# Altium integrated library Diodes - TVS.IntLib: 5379 symbols (part 41 of 122)
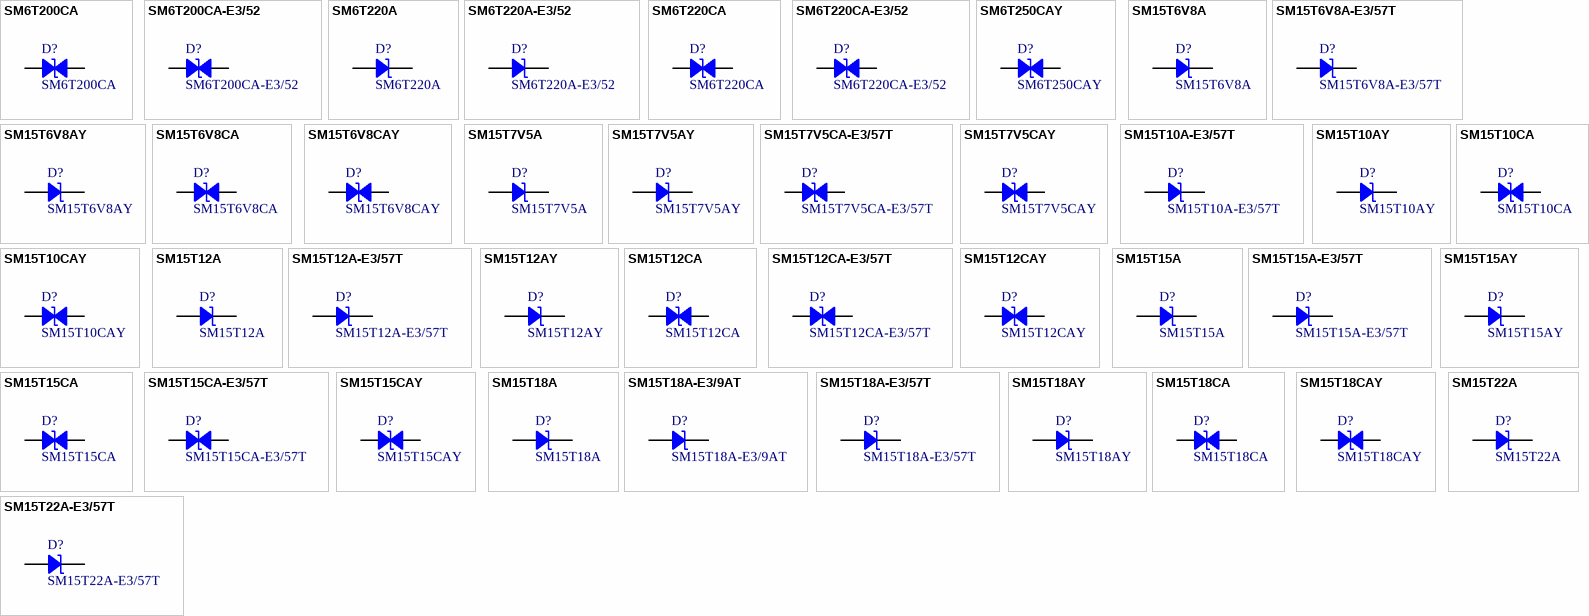
[diagram p174: symbols SM6T200CA to SM15T22A-E3/57T]

## SM15T6V8A-E3/57T
designator D?
TVS DIODE 5.8V 10.5V DO214AB; Manufacturer: Vishay Semiconductor Diodes Division; Current - Peak Pulse (10/1000µs): 143A; Power Line Protection: No; Power - Peak Pulse: 1500W (1.5kW); Type: Zener; Unidirectional Channels: 1; Voltage - Breakdown (Min): 6.45V; Part Number: SM15T6V8A-E3/57T; Applications: General Purpose; ComponentLink1Description: Datasheet; ComponentLink1URL: http://www.vishay.com/docs/88380/sm15t.pdf; ComponentLink2Description: DigiKey Link; ComponentLink2URL: http://digikey.com/product-detail/en/vishay-semiconductor-diodes-division/SM15T6V8A-E3-57T/SM15T6V8A-E3-57TGICT-ND/3306545; LastUpdated: 9/2/2020 1:20:02 AM; Lifecycle Status: Active; Minimum Order: 1; Mounting Type: Surface Mount; Operating Temperature: -65°C ~ 150°C (TJ); Package / Case: DO-214AB, SMC; Packaging: TapeAndReel; PartId: 6552; Part Status: Active; Price: 0.29; Series: SM15T, TransZorb®; Supplier 1: DigiKey; Supplier Part Number 1: SM15T6V8A-E3/57TGICT-ND; Supplier Device Package: DO-214AB (SMCJ); Voltage - Clamping (Max) @ Ipp: 10.5V; Voltage - Reverse Standoff (Typ): 5.8V
footprint DO214AB SMC
pins: 1, 2

## SM15T6V8AY
designator D?
TVS DIODE 5.8V 13.4V SMC; Manufacturer: STMicroelectronics; Current - Peak Pulse (10/1000µs): 746A (8/20µs); Power Line Protection: No; Power - Peak Pulse: 1500W (1.5kW); Type: Zener; Unidirectional Channels: 1; Voltage - Breakdown (Min): 6.45V; Part Number: SM15T6V8AY; Applications: Automotive; ComponentLink1Description: Datasheet; ComponentLink1URL: http://www.st.com/content/ccc/resource/technical/document/datasheet/83/5f/b6/7b/63/85/41/b5/CD00283429.pdf/files/CD00283429.pdf/jcr:content/translations/en.CD00283429.pdf; ComponentLink2Description: DigiKey Link; ComponentLink2URL: http://digikey.com/product-detail/en/stmicroelectronics/SM15T6V8AY/497-11780-1-ND/2756579; LastUpdated: 9/2/2020 1:20:03 AM; Lifecycle Status: Active; Minimum Order: 1; Mounting Type: Surface Mount; Operating Temperature: -40°C ~ 150°C (TJ); Package / Case: DO-214AB, SMC; Packaging: TapeAndReel; PartId: 6663; Part Status: Active; Price: 0.37; Series: Automotive, AEC-Q101, SM15TY, TRANSIL™; Supplier 1: DigiKey; Supplier Part Number 1: 497-11780-1-ND; Supplier Device Package: SMC; Voltage - Clamping (Max) @ Ipp: 13.4V; Voltage - Reverse Standoff (Typ): 5.8V
footprint DO214AB SMC
pins: 1, 2

## SM15T6V8CA
designator D?
TVS DIODE 5.8V 13.4V SMC; Manufacturer: STMicroelectronics; Bidirectional Channels: 1; Current - Peak Pulse (10/1000µs): 746A (8/20µs); Power Line Protection: No; Power - Peak Pulse: 1500W (1.5kW); Type: Zener; Voltage - Breakdown (Min): 6.45V; Part Number: SM15T6V8CA; Applications: General Purpose; ComponentLink1Description: Datasheet; ComponentLink1URL: http://www.st.com/content/ccc/resource/technical/document/datasheet/a5/63/bb/0d/f0/b8/44/65/CD00000724.pdf/files/CD00000724.pdf/jcr:content/translations/en.CD00000724.pdf; ComponentLink2Description: DigiKey Link; ComponentLink2URL: http://digikey.com/product-detail/en/stmicroelectronics/SM15T6V8CA/497-6488-1-ND/1865469; LastUpdated: 9/2/2020 1:28:09 AM; Lifecycle Status: Active; Minimum Order: 1; Mounting Type: Surface Mount; Operating Temperature: -55°C ~ 150°C (TJ); Package / Case: DO-214AB, SMC; Packaging: TapeAndReel; PartId: 8735; Part Status: Active; Price: 0.38; Series: SM15T, TRANSIL™; Supplier 1: DigiKey; Supplier Part Number 1: 497-6488-1-ND; Supplier Device Package: SMC; Voltage - Clamping (Max) @ Ipp: 13.4V; Voltage - Reverse Standoff (Typ): 5.8V
footprint DO214AB SMC
pins: 1, 2

## SM15T6V8CAY
designator D?
TVS DIODE 5.8V 13.4V SMC; Manufacturer: STMicroelectronics; Bidirectional Channels: 1; Current - Peak Pulse (10/1000µs): 746A (8/20µs); Power Line Protection: No; Power - Peak Pulse: 1500W (1.5kW); Type: Zener; Voltage - Breakdown (Min): 6.45V; Part Number: SM15T6V8CAY; Applications: Automotive; ComponentLink1Description: Datasheet; ComponentLink1URL: http://www.st.com/content/ccc/resource/technical/document/datasheet/83/5f/b6/7b/63/85/41/b5/CD00283429.pdf/files/CD00283429.pdf/jcr:content/translations/en.CD00283429.pdf; ComponentLink2Description: DigiKey Link; ComponentLink2URL: http://digikey.com/product-detail/en/stmicroelectronics/SM15T6V8CAY/497-11781-1-ND/2756568; LastUpdated: 9/2/2020 1:28:08 AM; Lifecycle Status: Active; Minimum Order: 1; Mounting Type: Surface Mount; Operating Temperature: -40°C ~ 150°C (TJ); Package / Case: DO-214AB, SMC; Packaging: TapeAndReel; PartId: 8624; Part Status: Active; Price: 0.38; Series: Automotive, AEC-Q101, SM15TY, TRANSIL™; Supplier 1: DigiKey; Supplier Part Number 1: 497-11781-1-ND; Supplier Device Package: SMC; Voltage - Clamping (Max) @ Ipp: 13.4V; Voltage - Reverse Standoff (Typ): 5.8V
footprint DO214AB SMC
pins: 1, 2

## SM15T7V5A
designator D?
TVS DIODE 6.4V 14.5V SMC; Manufacturer: STMicroelectronics; Current - Peak Pulse (10/1000µs): 690A (8/20µs); Power Line Protection: No; Power - Peak Pulse: 1500W (1.5kW); Type: Zener; Unidirectional Channels: 1; Voltage - Breakdown (Min): 7.13V; Part Number: SM15T7V5A; Applications: General Purpose; ComponentLink1Description: Datasheet; ComponentLink1URL: http://www.st.com/content/ccc/resource/technical/document/datasheet/a5/63/bb/0d/f0/b8/44/65/CD00000724.pdf/files/CD00000724.pdf/jcr:content/translations/en.CD00000724.pdf; ComponentLink2Description: DigiKey Link; ComponentLink2URL: http://digikey.com/product-detail/en/stmicroelectronics/SM15T7V5A/497-12774-1-ND/2873840; LastUpdated: 9/2/2020 1:20:06 AM; Lifecycle Status: Active; Minimum Order: 1; Mounting Type: Surface Mount; Operating Temperature: -55°C ~ 150°C (TJ); Package / Case: DO-214AB, SMC; Packaging: TapeAndReel; PartId: 7012; Part Status: Active; Price: 0.32; Series: SM15T, TRANSIL™; Supplier 1: DigiKey; Supplier Part Number 1: 497-12774-1-ND; Supplier Device Package: SMC; Voltage - Clamping (Max) @ Ipp: 14.5V; Voltage - Reverse Standoff (Typ): 6.4V
footprint DO214AB SMC
pins: 1, 2

## SM15T7V5AY
designator D?
TVS DIODE 6.4V 14.5V SMC; Manufacturer: STMicroelectronics; Current - Peak Pulse (10/1000µs): 690A (8/20µs); Power Line Protection: No; Power - Peak Pulse: 1500W (1.5kW); Type: Zener; Unidirectional Channels: 1; Voltage - Breakdown (Min): 7.13V; Part Number: SM15T7V5AY; Applications: Automotive; ComponentLink1Description: Datasheet; ComponentLink1URL: http://www.st.com/content/ccc/resource/technical/document/datasheet/83/5f/b6/7b/63/85/41/b5/CD00283429.pdf/files/CD00283429.pdf/jcr:content/translations/en.CD00283429.pdf; ComponentLink2Description: DigiKey Link; ComponentLink2URL: http://digikey.com/product-detail/en/stmicroelectronics/SM15T7V5AY/497-11784-1-ND/2756580; LastUpdated: 9/2/2020 1:20:03 AM; Lifecycle Status: Active; Minimum Order: 1; Mounting Type: Surface Mount; Operating Temperature: -40°C ~ 150°C (TJ); Package / Case: DO-214AB, SMC; Packaging: TapeAndReel; PartId: 6664; Part Status: Active; Price: 0.37; Series: Automotive, AEC-Q101, SM15TY, TRANSIL™; Supplier 1: DigiKey; Supplier Part Number 1: 497-11784-1-ND; Supplier Device Package: SMC; Voltage - Clamping (Max) @ Ipp: 14.5V; Voltage - Reverse Standoff (Typ): 6.4V
footprint DO214AB SMC
pins: 1, 2

## SM15T7V5CA-E3/57T
designator D?
TVS DIODE 6.4V 11.3V DO214AB; Manufacturer: Vishay Semiconductor Diodes Division; Bidirectional Channels: 1; Current - Peak Pulse (10/1000µs): 132A; Power Line Protection: No; Power - Peak Pulse: 1500W (1.5kW); Type: Zener; Voltage - Breakdown (Min): 7.13V; Part Number: SM15T7V5CA-E3/57T; Applications: General Purpose; ComponentLink1Description: Datasheet; ComponentLink1URL: http://www.vishay.com/docs/88380/sm15t.pdf; ComponentLink2Description: DigiKey Link; ComponentLink2URL: http://digikey.com/product-detail/en/vishay-semiconductor-diodes-division/SM15T7V5CA-E3-57T/SM15T7V5CA-E3-57TGICT-ND/5639120; LastUpdated: 9/2/2020 1:28:08 AM; Lifecycle Status: Active; Minimum Order: 1; Mounting Type: Surface Mount; Operating Temperature: -65°C ~ 150°C (TJ); Package / Case: DO-214AB, SMC; Packaging: TapeAndReel; PartId: 8655; Part Status: Active; Price: 0.34; Series: SM15T, TransZorb®; Supplier 1: DigiKey; Supplier Part Number 1: SM15T7V5CA-E3/57TGICT-ND; Supplier Device Package: DO-214AB (SMCJ); Voltage - Clamping (Max) @ Ipp: 11.3V; Voltage - Reverse Standoff (Typ): 6.4V
footprint DO214AB SMC
pins: 1, 2

## SM15T7V5CAY
designator D?
TVS DIODE 6.4V 14.5V SMC; Manufacturer: STMicroelectronics; Bidirectional Channels: 1; Current - Peak Pulse (10/1000µs): 690A (8/20µs); Power Line Protection: No; Power - Peak Pulse: 1500W (1.5kW); Type: Zener; Voltage - Breakdown (Min): 7.13V; Part Number: SM15T7V5CAY; Applications: Automotive; ComponentLink1Description: Datasheet; ComponentLink1URL: http://www.st.com/content/ccc/resource/technical/document/datasheet/83/5f/b6/7b/63/85/41/b5/CD00283429.pdf/files/CD00283429.pdf/jcr:content/translations/en.CD00283429.pdf; ComponentLink2Description: DigiKey Link; ComponentLink2URL: http://digikey.com/product-detail/en/stmicroelectronics/SM15T7V5CAY/497-11785-1-ND/2756583; LastUpdated: 9/2/2020 1:28:06 AM; Lifecycle Status: Active; Minimum Order: 1; Mounting Type: Surface Mount; Operating Temperature: -40°C ~ 150°C (TJ); Package / Case: DO-214AB, SMC; Packaging: TapeAndReel; PartId: 8440; Part Status: Active; Price: 0.38; Series: Automotive, AEC-Q101, SM15TY, TRANSIL™; Supplier 1: DigiKey; Supplier Part Number 1: 497-11785-1-ND; Supplier Device Package: SMC; Voltage - Clamping (Max) @ Ipp: 14.5V; Voltage - Reverse Standoff (Typ): 6.4V
footprint DO214AB SMC
pins: 1, 2

## SM15T10A-E3/57T
designator D?
TVS DIODE 8.55V 14.5V DO214AB; Manufacturer: Vishay Semiconductor Diodes Division; Current - Peak Pulse (10/1000µs): 103A; Power Line Protection: No; Power - Peak Pulse: 1500W (1.5kW); Type: Zener; Unidirectional Channels: 1; Voltage - Breakdown (Min): 9.5V; Part Number: SM15T10A-E3/57T; Applications: General Purpose; ComponentLink1Description: Datasheet; ComponentLink1URL: http://www.vishay.com/docs/88380/sm15t.pdf; ComponentLink2Description: DigiKey Link; ComponentLink2URL: http://digikey.com/product-detail/en/vishay-semiconductor-diodes-division/SM15T10A-E3-57T/SM15T10A-E3-57TGICT-ND/5639095; LastUpdated: 9/2/2020 1:20:01 AM; Lifecycle Status: Active; Minimum Order: 1; Mounting Type: Surface Mount; Operating Temperature: -65°C ~ 150°C (TJ); Package / Case: DO-214AB, SMC; Packaging: TapeAndReel; PartId: 6549; Part Status: Active; Price: 0.29; Series: SM15T, TransZorb®; Supplier 1: DigiKey; Supplier Part Number 1: SM15T10A-E3/57TGICT-ND; Supplier Device Package: DO-214AB (SMCJ); Voltage - Clamping (Max) @ Ipp: 14.5V; Voltage - Reverse Standoff (Typ): 8.55V
footprint DO214AB SMC
pins: 1, 2

## SM15T10AY
designator D?
TVS DIODE 8.55V 18.6V SMC; Manufacturer: STMicroelectronics; Current - Peak Pulse (10/1000µs): 538A (8/20µs); Power Line Protection: No; Power - Peak Pulse: 1500W (1.5kW); Type: Zener; Unidirectional Channels: 1; Voltage - Breakdown (Min): 9.5V; Part Number: SM15T10AY; Applications: Automotive; ComponentLink1Description: Datasheet; ComponentLink1URL: http://www.st.com/content/ccc/resource/technical/document/datasheet/83/5f/b6/7b/63/85/41/b5/CD00283429.pdf/files/CD00283429.pdf/jcr:content/translations/en.CD00283429.pdf; ComponentLink2Description: DigiKey Link; ComponentLink2URL: http://digikey.com/product-detail/en/stmicroelectronics/SM15T10AY/497-11772-1-ND/2756577; LastUpdated: 9/2/2020 1:20:04 AM; Lifecycle Status: Active; Minimum Order: 1; Mounting Type: Surface Mount; Operating Temperature: -40°C ~ 150°C (TJ); Package / Case: DO-214AB, SMC; Packaging: TapeAndReel; PartId: 6878; Part Status: Active; Price: 0.37; Series: Automotive, AEC-Q101, SM15TY, TRANSIL™; Supplier 1: DigiKey; Supplier Part Number 1: 497-11772-1-ND; Supplier Device Package: SMC; Voltage - Clamping (Max) @ Ipp: 18.6V; Voltage - Reverse Standoff (Typ): 8.55V
footprint DO214AB SMC
pins: 1, 2

## SM15T10CA
designator D?
TVS DIODE 8.55V 18.6V SMC; Manufacturer: STMicroelectronics; Bidirectional Channels: 1; Current - Peak Pulse (10/1000µs): 538A (8/20µs); Power Line Protection: No; Power - Peak Pulse: 1500W (1.5kW); Type: Zener; Voltage - Breakdown (Min): 9.5V; Part Number: SM15T10CA; Applications: General Purpose; ComponentLink1Description: Datasheet; ComponentLink1URL: http://www.st.com/content/ccc/resource/technical/document/datasheet/a5/63/bb/0d/f0/b8/44/65/CD00000724.pdf/files/CD00000724.pdf/jcr:content/translations/en.CD00000724.pdf; ComponentLink2Description: DigiKey Link; ComponentLink2URL: http://digikey.com/product-detail/en/stmicroelectronics/SM15T10CA/497-6482-1-ND/1865468; LastUpdated: 9/2/2020 1:28:09 AM; Lifecycle Status: Active; Minimum Order: 1; Mounting Type: Surface Mount; Operating Temperature: -55°C ~ 150°C (TJ); Package / Case: DO-214AB, SMC; Packaging: TapeAndReel; PartId: 8759; Part Status: Active; Price: 0.32; Series: SM15T, TRANSIL™; Supplier 1: DigiKey; Supplier Part Number 1: 497-6482-1-ND; Supplier Device Package: SMC; Voltage - Clamping (Max) @ Ipp: 18.6V; Voltage - Reverse Standoff (Typ): 8.55V
footprint DO214AB SMC
pins: 1, 2

## SM15T10CAY
designator D?
TVS DIODE 8.55V 18.6V SMC; Manufacturer: STMicroelectronics; Bidirectional Channels: 1; Current - Peak Pulse (10/1000µs): 538A (8/20µs); Power Line Protection: No; Power - Peak Pulse: 1500W (1.5kW); Type: Zener; Voltage - Breakdown (Min): 9.5V; Part Number: SM15T10CAY; Applications: Automotive; ComponentLink1Description: Datasheet; ComponentLink1URL: http://www.st.com/content/ccc/resource/technical/document/datasheet/83/5f/b6/7b/63/85/41/b5/CD00283429.pdf/files/CD00283429.pdf/jcr:content/translations/en.CD00283429.pdf; ComponentLink2Description: DigiKey Link; ComponentLink2URL: http://digikey.com/product-detail/en/stmicroelectronics/SM15T10CAY/497-11773-1-ND/2756576; LastUpdated: 9/2/2020 1:28:06 AM; Lifecycle Status: Active; Minimum Order: 1; Mounting Type: Surface Mount; Operating Temperature: -40°C ~ 150°C (TJ); Package / Case: DO-214AB, SMC; Packaging: TapeAndReel; PartId: 8441; Part Status: Active; Price: 0.38; Series: Automotive, AEC-Q101, SM15TY, TRANSIL™; Supplier 1: DigiKey; Supplier Part Number 1: 497-11773-1-ND; Supplier Device Package: SMC; Voltage - Clamping (Max) @ Ipp: 18.6V; Voltage - Reverse Standoff (Typ): 8.55V
footprint DO214AB SMC
pins: 1, 2

## SM15T12A
designator D?
TVS DIODE 10.2V 21.7V SMC; Manufacturer: STMicroelectronics; Current - Peak Pulse (10/1000µs): 461A (8/20µs); Power Line Protection: No; Power - Peak Pulse: 1500W (1.5kW); Type: Zener; Unidirectional Channels: 1; Voltage - Breakdown (Min): 11.4V; Part Number: SM15T12A; Applications: General Purpose; ComponentLink1Description: Datasheet; ComponentLink1URL: http://www.st.com/content/ccc/resource/technical/document/datasheet/a5/63/bb/0d/f0/b8/44/65/CD00000724.pdf/files/CD00000724.pdf/jcr:content/translations/en.CD00000724.pdf; ComponentLink2Description: DigiKey Link; ComponentLink2URL: http://digikey.com/product-detail/en/stmicroelectronics/SM15T12A/497-3715-1-ND/686433; LastUpdated: 9/2/2020 1:20:08 AM; Lifecycle Status: Active; Minimum Order: 1; Mounting Type: Surface Mount; Operating Temperature: -55°C ~ 150°C (TJ); Package / Case: DO-214AB, SMC; Packaging: TapeAndReel; PartId: 7207; Part Status: Active; Price: 0.31; Series: SM15T, TRANSIL™; Supplier 1: DigiKey; Supplier Part Number 1: 497-3715-1-ND; Supplier Device Package: SMC; Voltage - Clamping (Max) @ Ipp: 21.7V; Voltage - Reverse Standoff (Typ): 10.2V
footprint DO214AB SMC
pins: 1, 2

## SM15T12A-E3/57T
designator D?
TVS DIODE 10.2V 16.7V DO214AB; Manufacturer: Vishay Semiconductor Diodes Division; Current - Peak Pulse (10/1000µs): 90A; Power Line Protection: No; Power - Peak Pulse: 1500W (1.5kW); Type: Zener; Unidirectional Channels: 1; Voltage - Breakdown (Min): 11.4V; Part Number: SM15T12A-E3/57T; Applications: General Purpose; ComponentLink1Description: Datasheet; ComponentLink1URL: http://www.vishay.com/docs/88380/sm15t.pdf; ComponentLink2Description: DigiKey Link; ComponentLink2URL: http://digikey.com/product-detail/en/vishay-semiconductor-diodes-division/SM15T12A-E3-57T/SM15T12A-E3-57TGICT-ND/5639097; LastUpdated: 9/2/2020 1:20:07 AM; Lifecycle Status: Active; Minimum Order: 1; Mounting Type: Surface Mount; Operating Temperature: -65°C ~ 150°C (TJ); Package / Case: DO-214AB, SMC; Packaging: TapeAndReel; PartId: 7149; Part Status: Active; Price: 0.29; Series: SM15T, TransZorb®; Supplier 1: DigiKey; Supplier Part Number 1: SM15T12A-E3/57TGICT-ND; Supplier Device Package: DO-214AB (SMCJ); Voltage - Clamping (Max) @ Ipp: 16.7V; Voltage - Reverse Standoff (Typ): 10.2V
footprint DO214AB SMC
pins: 1, 2

## SM15T12AY
designator D?
TVS DIODE 10.2V 21.7V SMC; Manufacturer: STMicroelectronics; Current - Peak Pulse (10/1000µs): 461A (8/20µs); Power Line Protection: No; Power - Peak Pulse: 1500W (1.5kW); Type: Zener; Unidirectional Channels: 1; Voltage - Breakdown (Min): 11.4V; Part Number: SM15T12AY; Applications: Automotive; ComponentLink1Description: Datasheet; ComponentLink1URL: http://www.st.com/content/ccc/resource/technical/document/datasheet/83/5f/b6/7b/63/85/41/b5/CD00283429.pdf/files/CD00283429.pdf/jcr:content/translations/en.CD00283429.pdf; ComponentLink2Description: DigiKey Link; ComponentLink2URL: http://digikey.com/product-detail/en/stmicroelectronics/SM15T12AY/497-11774-1-ND/2756574; LastUpdated: 9/2/2020 1:20:06 AM; Lifecycle Status: Active; Minimum Order: 1; Mounting Type: Surface Mount; Operating Temperature: -40°C ~ 150°C (TJ); Package / Case: DO-214AB, SMC; Packaging: TapeAndReel; PartId: 7041; Part Status: Active; Price: 0.37; Series: Automotive, AEC-Q101, SM15TY, TRANSIL™; Supplier 1: DigiKey; Supplier Part Number 1: 497-11774-1-ND; Supplier Device Package: SMC; Voltage - Clamping (Max) @ Ipp: 21.7V; Voltage - Reverse Standoff (Typ): 10.2V
footprint DO214AB SMC
pins: 1, 2

## SM15T12CA
designator D?
TVS DIODE 10.2V 21.7V SMC; Manufacturer: STMicroelectronics; Bidirectional Channels: 1; Current - Peak Pulse (10/1000µs): 461A (8/20µs); Power Line Protection: No; Power - Peak Pulse: 1500W (1.5kW); Type: Zener; Voltage - Breakdown (Min): 11.4V; Part Number: SM15T12CA; Applications: General Purpose; ComponentLink1Description: Datasheet; ComponentLink1URL: http://www.st.com/content/ccc/resource/technical/document/datasheet/a5/63/bb/0d/f0/b8/44/65/CD00000724.pdf/files/CD00000724.pdf/jcr:content/translations/en.CD00000724.pdf; ComponentLink2Description: DigiKey Link; ComponentLink2URL: http://digikey.com/product-detail/en/stmicroelectronics/SM15T12CA/497-12771-1-ND/2873835; LastUpdated: 9/2/2020 1:28:08 AM; Lifecycle Status: Active; Minimum Order: 1; Mounting Type: Surface Mount; Operating Temperature: -55°C ~ 150°C (TJ); Package / Case: DO-214AB, SMC; Packaging: TapeAndReel; PartId: 8628; Part Status: Active; Price: 0.32; Series: SM15T, TRANSIL™; Supplier 1: DigiKey; Supplier Part Number 1: 497-12771-1-ND; Supplier Device Package: SMC; Voltage - Clamping (Max) @ Ipp: 21.7V; Voltage - Reverse Standoff (Typ): 10.2V
footprint DO214AB SMC
pins: 1, 2

## SM15T12CA-E3/57T
designator D?
TVS DIODE 10.2V 16.7V DO214AB; Manufacturer: Vishay Semiconductor Diodes Division; Bidirectional Channels: 1; Current - Peak Pulse (10/1000µs): 90A; Power Line Protection: No; Power - Peak Pulse: 1500W (1.5kW); Type: Zener; Voltage - Breakdown (Min): 11.4V; Part Number: SM15T12CA-E3/57T; Applications: General Purpose; ComponentLink1Description: Datasheet; ComponentLink1URL: http://www.vishay.com/docs/88380/sm15t.pdf; ComponentLink2Description: DigiKey Link; ComponentLink2URL: http://digikey.com/product-detail/en/vishay-semiconductor-diodes-division/SM15T12CA-E3-57T/SM15T12CA-E3-57TGICT-ND/5639098; LastUpdated: 9/2/2020 1:28:02 AM; Lifecycle Status: Active; Minimum Order: 1; Mounting Type: Surface Mount; Operating Temperature: -65°C ~ 150°C (TJ); Package / Case: DO-214AB, SMC; Packaging: TapeAndReel; PartId: 8029; Part Status: Active; Price: 0.34; Series: SM15T, TransZorb®; Supplier 1: DigiKey; Supplier Part Number 1: SM15T12CA-E3/57TGICT-ND; Supplier Device Package: DO-214AB (SMCJ); Voltage - Clamping (Max) @ Ipp: 16.7V; Voltage - Reverse Standoff (Typ): 10.2V
footprint DO214AB SMC
pins: 1, 2

## SM15T12CAY
designator D?
TVS DIODE 10.2V 21.7V SMC; Manufacturer: STMicroelectronics; Bidirectional Channels: 1; Current - Peak Pulse (10/1000µs): 461A (8/20µs); Power Line Protection: No; Power - Peak Pulse: 1500W (1.5kW); Type: Zener; Voltage - Breakdown (Min): 11.4V; Part Number: SM15T12CAY; Applications: Automotive; ComponentLink1Description: Datasheet; ComponentLink1URL: http://www.st.com/content/ccc/resource/technical/document/datasheet/83/5f/b6/7b/63/85/41/b5/CD00283429.pdf/files/CD00283429.pdf/jcr:content/translations/en.CD00283429.pdf; ComponentLink2Description: DigiKey Link; ComponentLink2URL: http://digikey.com/product-detail/en/stmicroelectronics/SM15T12CAY/497-11775-1-ND/2756573; LastUpdated: 9/2/2020 1:28:08 AM; Lifecycle Status: Active; Minimum Order: 1; Mounting Type: Surface Mount; Operating Temperature: -40°C ~ 150°C (TJ); Package / Case: DO-214AB, SMC; Packaging: TapeAndReel; PartId: 8622; Part Status: Active; Price: 0.38; Series: Automotive, AEC-Q101, SM15TY, TRANSIL™; Supplier 1: DigiKey; Supplier Part Number 1: 497-11775-1-ND; Supplier Device Package: SMC; Voltage - Clamping (Max) @ Ipp: 21.7V; Voltage - Reverse Standoff (Typ): 10.2V
footprint DO214AB SMC
pins: 1, 2

## SM15T15A
designator D?
TVS DIODE 12.8V 27.2V SMC; Manufacturer: STMicroelectronics; Current - Peak Pulse (10/1000µs): 368A (8/20µs); Power Line Protection: No; Power - Peak Pulse: 1500W (1.5kW); Type: Zener; Unidirectional Channels: 1; Voltage - Breakdown (Min): 14.3V; Part Number: SM15T15A; Applications: General Purpose; ComponentLink1Description: Datasheet; ComponentLink1URL: http://www.st.com/content/ccc/resource/technical/document/datasheet/a5/63/bb/0d/f0/b8/44/65/CD00000724.pdf/files/CD00000724.pdf/jcr:content/translations/en.CD00000724.pdf; ComponentLink2Description: DigiKey Link; ComponentLink2URL: http://digikey.com/product-detail/en/stmicroelectronics/SM15T15A/497-7862-1-ND/1883555; LastUpdated: 9/2/2020 1:20:08 AM; Lifecycle Status: Active; Minimum Order: 1; Mounting Type: Surface Mount; Operating Temperature: -55°C ~ 150°C (TJ); Package / Case: DO-214AB, SMC; Packaging: TapeAndReel; PartId: 7229; Part Status: Active; Price: 0.32; Series: SM15T, TRANSIL™; Supplier 1: DigiKey; Supplier Part Number 1: 497-7862-1-ND; Supplier Device Package: SMC; Voltage - Clamping (Max) @ Ipp: 27.2V; Voltage - Reverse Standoff (Typ): 12.8V
footprint DO214AB SMC
pins: 1, 2

## SM15T15A-E3/57T
designator D?
TVS DIODE 12.8V 21.2V DO214AB; Manufacturer: Vishay Semiconductor Diodes Division; Current - Peak Pulse (10/1000µs): 71A; Power Line Protection: No; Power - Peak Pulse: 1500W (1.5kW); Type: Zener; Unidirectional Channels: 1; Voltage - Breakdown (Min): 14.3V; Part Number: SM15T15A-E3/57T; Applications: General Purpose; ComponentLink1Description: Datasheet; ComponentLink1URL: http://www.vishay.com/docs/88380/sm15t.pdf; ComponentLink2Description: DigiKey Link; ComponentLink2URL: http://digikey.com/product-detail/en/vishay-semiconductor-diodes-division/SM15T15A-E3-57T/SM15T15A-E3-57TGICT-ND/2413465; LastUpdated: 9/2/2020 1:20:01 AM; Lifecycle Status: Active; Minimum Order: 1; Mounting Type: Surface Mount; Operating Temperature: -65°C ~ 150°C (TJ); Package / Case: DO-214AB, SMC; Packaging: TapeAndReel; PartId: 6548; Part Status: Active; Price: 0.29; Series: SM15T, TransZorb®; Supplier 1: DigiKey; Supplier Part Number 1: SM15T15A-E3/57TGICT-ND; Supplier Device Package: DO-214AB (SMCJ); Voltage - Clamping (Max) @ Ipp: 21.2V; Voltage - Reverse Standoff (Typ): 12.8V
footprint DO214AB SMC
pins: 1, 2

## SM15T15AY
designator D?
TVS DIODE 12.8V 27.2V SMC; Manufacturer: STMicroelectronics; Current - Peak Pulse (10/1000µs): 368A (8/20µs); Power Line Protection: No; Power - Peak Pulse: 1500W (1.5kW); Type: Zener; Unidirectional Channels: 1; Voltage - Breakdown (Min): 14.3V; Part Number: SM15T15AY; Applications: Automotive; ComponentLink1Description: Datasheet; ComponentLink1URL: http://www.st.com/content/ccc/resource/technical/document/datasheet/83/5f/b6/7b/63/85/41/b5/CD00283429.pdf/files/CD00283429.pdf/jcr:content/translations/en.CD00283429.pdf; ComponentLink2Description: DigiKey Link; ComponentLink2URL: http://digikey.com/product-detail/en/stmicroelectronics/SM15T15AY/497-11776-1-ND/2756567; LastUpdated: 9/2/2020 1:20:04 AM; Lifecycle Status: Active; Minimum Order: 1; Mounting Type: Surface Mount; Operating Temperature: -40°C ~ 150°C (TJ); Package / Case: DO-214AB, SMC; Packaging: TapeAndReel; PartId: 6877; Part Status: Active; Price: 0.37; Series: Automotive, AEC-Q101, SM15TY, TRANSIL™; Supplier 1: DigiKey; Supplier Part Number 1: 497-11776-1-ND; Supplier Device Package: SMC; Voltage - Clamping (Max) @ Ipp: 27.2V; Voltage - Reverse Standoff (Typ): 12.8V
footprint DO214AB SMC
pins: 1, 2

## SM15T15CA
designator D?
TVS DIODE 12.8V 27.2V SMC; Manufacturer: STMicroelectronics; Bidirectional Channels: 1; Current - Peak Pulse (10/1000µs): 368A (8/20µs); Power Line Protection: No; Power - Peak Pulse: 1500W (1.5kW); Type: Zener; Voltage - Breakdown (Min): 14.3V; Part Number: SM15T15CA; Applications: General Purpose; ComponentLink1Description: Datasheet; ComponentLink1URL: http://www.st.com/content/ccc/resource/technical/document/datasheet/a5/63/bb/0d/f0/b8/44/65/CD00000724.pdf/files/CD00000724.pdf/jcr:content/translations/en.CD00000724.pdf; ComponentLink2Description: DigiKey Link; ComponentLink2URL: http://digikey.com/product-detail/en/stmicroelectronics/SM15T15CA/497-7863-1-ND/1883463; LastUpdated: 9/2/2020 1:28:09 AM; Lifecycle Status: Active; Minimum Order: 1; Mounting Type: Surface Mount; Operating Temperature: -55°C ~ 150°C (TJ); Package / Case: DO-214AB, SMC; Packaging: TapeAndReel; PartId: 8754; Part Status: Active; Price: 0.35; Series: SM15T, TRANSIL™; Supplier 1: DigiKey; Supplier Part Number 1: 497-7863-1-ND; Supplier Device Package: SMC; Voltage - Clamping (Max) @ Ipp: 27.2V; Voltage - Reverse Standoff (Typ): 12.8V
footprint DO214AB SMC
pins: 1, 2

## SM15T15CA-E3/57T
designator D?
TVS DIODE 12.8V 21.2V DO214AB; Manufacturer: Vishay Semiconductor Diodes Division; Bidirectional Channels: 1; Current - Peak Pulse (10/1000µs): 71A; Power Line Protection: No; Power - Peak Pulse: 1500W (1.5kW); Type: Zener; Voltage - Breakdown (Min): 14.3V; Part Number: SM15T15CA-E3/57T; Applications: General Purpose; ComponentLink1Description: Datasheet; ComponentLink1URL: http://www.vishay.com/docs/88380/sm15t.pdf; ComponentLink2Description: DigiKey Link; ComponentLink2URL: http://digikey.com/product-detail/en/vishay-semiconductor-diodes-division/SM15T15CA-E3-57T/SM15T15CA-E3-57TGICT-ND/5639100; LastUpdated: 9/2/2020 1:28:03 AM; Lifecycle Status: Active; Minimum Order: 1; Mounting Type: Surface Mount; Operating Temperature: -65°C ~ 150°C (TJ); Package / Case: DO-214AB, SMC; Packaging: TapeAndReel; PartId: 8075; Part Status: Active; Price: 0.34; Series: SM15T, TransZorb®; Supplier 1: DigiKey; Supplier Part Number 1: SM15T15CA-E3/57TGICT-ND; Supplier Device Package: DO-214AB (SMCJ); Voltage - Clamping (Max) @ Ipp: 21.2V; Voltage - Reverse Standoff (Typ): 12.8V
footprint DO214AB SMC
pins: 1, 2

## SM15T15CAY
designator D?
TVS DIODE 12.8V 27.2V SMC; Manufacturer: STMicroelectronics; Bidirectional Channels: 1; Current - Peak Pulse (10/1000µs): 368A (8/20µs); Power Line Protection: No; Power - Peak Pulse: 1500W (1.5kW); Type: Zener; Voltage - Breakdown (Min): 14.3V; Part Number: SM15T15CAY; Applications: Automotive; ComponentLink1Description: Datasheet; ComponentLink1URL: http://www.st.com/content/ccc/resource/technical/document/datasheet/83/5f/b6/7b/63/85/41/b5/CD00283429.pdf/files/CD00283429.pdf/jcr:content/translations/en.CD00283429.pdf; ComponentLink2Description: DigiKey Link; ComponentLink2URL: http://digikey.com/product-detail/en/stmicroelectronics/SM15T15CAY/497-11777-1-ND/2756571; LastUpdated: 9/2/2020 1:28:04 AM; Lifecycle Status: Active; Minimum Order: 1; Mounting Type: Surface Mount; Operating Temperature: -40°C ~ 150°C (TJ); Package / Case: DO-214AB, SMC; Packaging: TapeAndReel; PartId: 8268; Part Status: Active; Price: 0.38; Series: Automotive, AEC-Q101, SM15TY, TRANSIL™; Supplier 1: DigiKey; Supplier Part Number 1: 497-11777-1-ND; Supplier Device Package: SMC; Voltage - Clamping (Max) @ Ipp: 27.2V; Voltage - Reverse Standoff (Typ): 12.8V
footprint DO214AB SMC
pins: 1, 2

## SM15T18A
designator D?
TVS DIODE 15.3V 32.5V SMC; Manufacturer: STMicroelectronics; Current - Peak Pulse (10/1000µs): 308A (8/20µs); Power Line Protection: No; Power - Peak Pulse: 1500W (1.5kW); Type: Zener; Unidirectional Channels: 1; Voltage - Breakdown (Min): 17.1V; Part Number: SM15T18A; Applications: General Purpose; ComponentLink1Description: Datasheet; ComponentLink1URL: http://www.st.com/content/ccc/resource/technical/document/datasheet/a5/63/bb/0d/f0/b8/44/65/CD00000724.pdf/files/CD00000724.pdf/jcr:content/translations/en.CD00000724.pdf; ComponentLink2Description: DigiKey Link; ComponentLink2URL: http://digikey.com/product-detail/en/stmicroelectronics/SM15T18A/497-7864-1-ND/1883468; LastUpdated: 9/2/2020 1:20:08 AM; Lifecycle Status: Active; Minimum Order: 1; Mounting Type: Surface Mount; Operating Temperature: -55°C ~ 150°C (TJ); Package / Case: DO-214AB, SMC; Packaging: TapeAndReel; PartId: 7238; Part Status: Active; Price: 0.30; Series: SM15T, TRANSIL™; Supplier 1: DigiKey; Supplier Part Number 1: 497-7864-1-ND; Supplier Device Package: SMC; Voltage - Clamping (Max) @ Ipp: 32.5V; Voltage - Reverse Standoff (Typ): 15.3V
footprint DO214AB SMC
pins: 1, 2

## SM15T18A-E3/9AT
designator D?
TVS DIODE 15.3V 25.2V DO214AB; Manufacturer: Vishay Semiconductor Diodes Division; Current - Peak Pulse (10/1000µs): 59.5A; Power Line Protection: No; Power - Peak Pulse: 1500W (1.5kW); Type: Zener; Unidirectional Channels: 1; Voltage - Breakdown (Min): 17.1V; Part Number: SM15T18A-E3/9AT; Applications: General Purpose; ComponentLink1Description: Datasheet; ComponentLink1URL: http://www.vishay.com/docs/88380/sm15t.pdf; ComponentLink2Description: DigiKey Link; ComponentLink2URL: http://digikey.com/product-detail/en/vishay-semiconductor-diodes-division/SM15T18A-E3-9AT/SM15T18A-E3-9ATGICT-ND/9600928; LastUpdated: 9/2/2020 1:20:03 AM; Lifecycle Status: Active; Minimum Order: 1; Mounting Type: Surface Mount; Operating Temperature: -65°C ~ 150°C (TJ); Package / Case: DO-214AB, SMC; Packaging: TapeAndReel; PartId: 6695; Part Status: Active; Price: 0.23; Series: SM15T, TransZorb®; Supplier 1: DigiKey; Supplier Part Number 1: SM15T18A-E3/9ATGICT-ND; Supplier Device Package: DO-214AB (SMCJ); Voltage - Clamping (Max) @ Ipp: 25.2V; Voltage - Reverse Standoff (Typ): 15.3V
footprint DO214AB SMC
pins: 1, 2

## SM15T18A-E3/57T
designator D?
TVS DIODE 15.3V 25.2V DO214AB; Manufacturer: Vishay Semiconductor Diodes Division; Current - Peak Pulse (10/1000µs): 59.5A; Power Line Protection: No; Power - Peak Pulse: 1500W (1.5kW); Type: Zener; Unidirectional Channels: 1; Voltage - Breakdown (Min): 17.1V; Part Number: SM15T18A-E3/57T; Applications: General Purpose; ComponentLink1Description: Datasheet; ComponentLink1URL: http://www.vishay.com/docs/88380/sm15t.pdf; ComponentLink2Description: DigiKey Link; ComponentLink2URL: http://digikey.com/product-detail/en/vishay-semiconductor-diodes-division/SM15T18A-E3-57T/SM15T18A-E3-57TGICT-ND/3711931; LastUpdated: 9/2/2020 1:19:59 AM; Lifecycle Status: Active; Minimum Order: 1; Mounting Type: Surface Mount; Operating Temperature: -65°C ~ 150°C (TJ); Package / Case: DO-214AB, SMC; Packaging: TapeAndReel; PartId: 6291; Part Status: Active; Price: 0.29; Series: SM15T, TransZorb®; Supplier 1: DigiKey; Supplier Part Number 1: SM15T18A-E3/57TGICT-ND; Supplier Device Package: DO-214AB (SMCJ); Voltage - Clamping (Max) @ Ipp: 25.2V; Voltage - Reverse Standoff (Typ): 15.3V
footprint DO214AB SMC
pins: 1, 2

## SM15T18AY
designator D?
TVS DIODE 15.3V 32.5V SMC; Manufacturer: STMicroelectronics; Current - Peak Pulse (10/1000µs): 308A (8/20µs); Power Line Protection: No; Power - Peak Pulse: 1500W (1.5kW); Type: Zener; Unidirectional Channels: 1; Voltage - Breakdown (Min): 17.1V; Part Number: SM15T18AY; Applications: Automotive; ComponentLink1Description: Datasheet; ComponentLink1URL: http://www.st.com/content/ccc/resource/technical/document/datasheet/83/5f/b6/7b/63/85/41/b5/CD00283429.pdf/files/CD00283429.pdf/jcr:content/translations/en.CD00283429.pdf; ComponentLink2Description: DigiKey Link; ComponentLink2URL: http://digikey.com/product-detail/en/stmicroelectronics/SM15T18AY/497-10786-1-ND/2442963; LastUpdated: 9/2/2020 1:20:04 AM; Lifecycle Status: Active; Minimum Order: 1; Mounting Type: Surface Mount; Operating Temperature: -40°C ~ 150°C (TJ); Package / Case: DO-214AB, SMC; Packaging: TapeAndReel; PartId: 6879; Part Status: Active; Price: 0.37; Series: Automotive, AEC-Q101, SM15TY, TRANSIL™; Supplier 1: DigiKey; Supplier Part Number 1: 497-10786-1-ND; Supplier Device Package: SMC; Voltage - Clamping (Max) @ Ipp: 32.5V; Voltage - Reverse Standoff (Typ): 15.3V
footprint DO214AB SMC
pins: 1, 2

## SM15T18CA
designator D?
TVS DIODE 15.3V 32.5V SMC; Manufacturer: STMicroelectronics; Bidirectional Channels: 1; Current - Peak Pulse (10/1000µs): 308A (8/20µs); Power Line Protection: No; Power - Peak Pulse: 1500W (1.5kW); Type: Zener; Voltage - Breakdown (Min): 17.1V; Part Number: SM15T18CA; Applications: General Purpose; ComponentLink1Description: Datasheet; ComponentLink1URL: http://www.st.com/content/ccc/resource/technical/document/datasheet/a5/63/bb/0d/f0/b8/44/65/CD00000724.pdf/files/CD00000724.pdf/jcr:content/translations/en.CD00000724.pdf; ComponentLink2Description: DigiKey Link; ComponentLink2URL: http://digikey.com/product-detail/en/stmicroelectronics/SM15T18CA/497-7865-1-ND/1883541; LastUpdated: 9/2/2020 1:28:06 AM; Lifecycle Status: Active; Minimum Order: 1; Mounting Type: Surface Mount; Operating Temperature: -55°C ~ 150°C (TJ); Package / Case: DO-214AB, SMC; Packaging: TapeAndReel; PartId: 8443; Part Status: Active; Price: 0.34; Series: SM15T, TRANSIL™; Supplier 1: DigiKey; Supplier Part Number 1: 497-7865-1-ND; Supplier Device Package: SMC; Voltage - Clamping (Max) @ Ipp: 32.5V; Voltage - Reverse Standoff (Typ): 15.3V
footprint DO214AB SMC
pins: 1, 2

## SM15T18CAY
designator D?
TVS DIODE 15.3V 32.5V SMC; Manufacturer: STMicroelectronics; Bidirectional Channels: 1; Current - Peak Pulse (10/1000µs): 308A (8/20µs); Power Line Protection: No; Power - Peak Pulse: 1500W (1.5kW); Type: Zener; Voltage - Breakdown (Min): 17.1V; Part Number: SM15T18CAY; Applications: Automotive; ComponentLink1Description: Datasheet; ComponentLink1URL: http://www.st.com/content/ccc/resource/technical/document/datasheet/83/5f/b6/7b/63/85/41/b5/CD00283429.pdf/files/CD00283429.pdf/jcr:content/translations/en.CD00283429.pdf; ComponentLink2Description: DigiKey Link; ComponentLink2URL: http://digikey.com/product-detail/en/stmicroelectronics/SM15T18CAY/497-10787-1-ND/2442966; LastUpdated: 9/2/2020 1:28:08 AM; Lifecycle Status: Active; Minimum Order: 1; Mounting Type: Surface Mount; Operating Temperature: -40°C ~ 150°C (TJ); Package / Case: DO-214AB, SMC; Packaging: TapeAndReel; PartId: 8626; Part Status: Active; Price: 0.38; Series: Automotive, AEC-Q101, SM15TY, TRANSIL™; Supplier 1: DigiKey; Supplier Part Number 1: 497-10787-1-ND; Supplier Device Package: SMC; Voltage - Clamping (Max) @ Ipp: 32.5V; Voltage - Reverse Standoff (Typ): 15.3V
footprint DO214AB SMC
pins: 1, 2

## SM15T22A
designator D?
TVS DIODE 18.8V 39.3V SMC; Manufacturer: STMicroelectronics; Current - Peak Pulse (10/1000µs): 254A (8/20µs); Power Line Protection: No; Power - Peak Pulse: 1500W (1.5kW); Type: Zener; Unidirectional Channels: 1; Voltage - Breakdown (Min): 20.9V; Part Number: SM15T22A; Applications: General Purpose; ComponentLink1Description: Datasheet; ComponentLink1URL: http://www.st.com/content/ccc/resource/technical/document/datasheet/a5/63/bb/0d/f0/b8/44/65/CD00000724.pdf/files/CD00000724.pdf/jcr:content/translations/en.CD00000724.pdf; ComponentLink2Description: DigiKey Link; ComponentLink2URL: http://digikey.com/product-detail/en/stmicroelectronics/SM15T22A/497-7867-1-ND/1883395; LastUpdated: 9/2/2020 1:20:03 AM; Lifecycle Status: Active; Minimum Order: 1; Mounting Type: Surface Mount; Operating Temperature: -55°C ~ 150°C (TJ); Package / Case: DO-214AB, SMC; Packaging: TapeAndReel; PartId: 6671; Part Status: Active; Price: 0.32; Series: SM15T, TRANSIL™; Supplier 1: DigiKey; Supplier Part Number 1: 497-7867-1-ND; Supplier Device Package: SMC; Voltage - Clamping (Max) @ Ipp: 39.3V; Voltage - Reverse Standoff (Typ): 18.8V
footprint DO214AB SMC
pins: 1, 2

## SM15T22A-E3/57T
designator D?
TVS DIODE 18.8V 30.6V DO214AB; Manufacturer: Vishay Semiconductor Diodes Division; Current - Peak Pulse (10/1000µs): 49A; Power Line Protection: No; Power - Peak Pulse: 1500W (1.5kW); Type: Zener; Unidirectional Channels: 1; Voltage - Breakdown (Min): 20.9V; Part Number: SM15T22A-E3/57T; Applications: General Purpose; ComponentLink1Description: Datasheet; ComponentLink1URL: http://www.vishay.com/docs/88380/sm15t.pdf; ComponentLink2Description: DigiKey Link; ComponentLink2URL: http://digikey.com/product-detail/en/vishay-semiconductor-diodes-division/SM15T22A-E3-57T/SM15T22A-E3-57TGICT-ND/5639106; LastUpdated: 9/2/2020 1:20:07 AM; Lifecycle Status: Active; Minimum Order: 1; Mounting Type: Surface Mount; Operating Temperature: -65°C ~ 150°C (TJ); Package / Case: DO-214AB, SMC; Packaging: TapeAndReel; PartId: 7150; Part Status: Active; Price: 0.29; Series: SM15T, TransZorb®; Supplier 1: DigiKey; Supplier Part Number 1: SM15T22A-E3/57TGICT-ND; Supplier Device Package: DO-214AB (SMCJ); Voltage - Clamping (Max) @ Ipp: 30.6V; Voltage - Reverse Standoff (Typ): 18.8V
footprint DO214AB SMC
pins: 1, 2

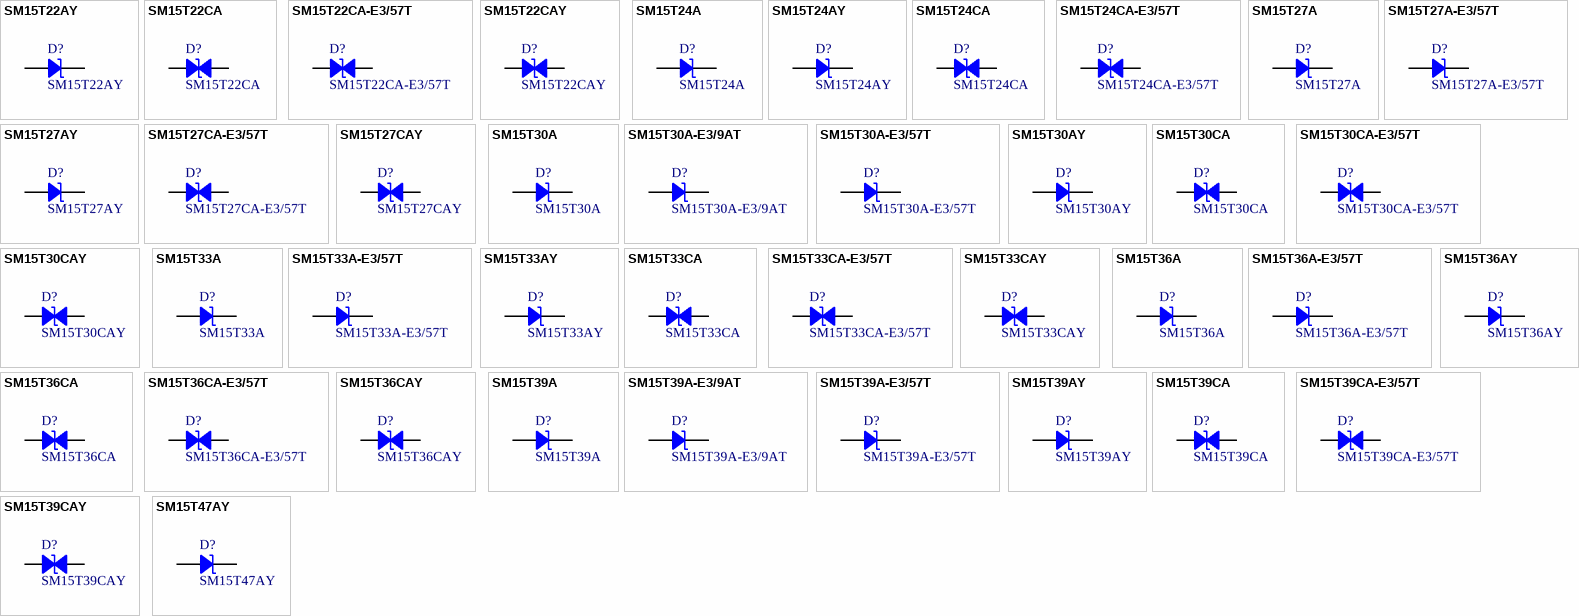
[diagram p45: symbols SM15T22AY to SM15T47AY]

## SM15T22AY
designator D?
TVS DIODE 18.8V 39.3V SMC; Manufacturer: STMicroelectronics; Current - Peak Pulse (10/1000µs): 254A (8/20µs); Power Line Protection: No; Power - Peak Pulse: 1500W (1.5kW); Type: Zener; Unidirectional Channels: 1; Voltage - Breakdown (Min): 20.9V; Part Number: SM15T22AY; Applications: Automotive; ComponentLink1Description: Datasheet; ComponentLink1URL: http://www.st.com/content/ccc/resource/technical/document/datasheet/83/5f/b6/7b/63/85/41/b5/CD00283429.pdf/files/CD00283429.pdf/jcr:content/translations/en.CD00283429.pdf; ComponentLink2Description: DigiKey Link; ComponentLink2URL: http://digikey.com/product-detail/en/stmicroelectronics/SM15T22AY/497-10897-1-ND/2522520; LastUpdated: 9/2/2020 1:20:03 AM; Lifecycle Status: Active; Minimum Order: 1; Mounting Type: Surface Mount; Operating Temperature: -40°C ~ 150°C (TJ); Package / Case: DO-214AB, SMC; Packaging: TapeAndReel; PartId: 6662; Part Status: Active; Price: 0.37; Series: Automotive, AEC-Q101, SM15TY, TRANSIL™; Supplier 1: DigiKey; Supplier Part Number 1: 497-10897-1-ND; Supplier Device Package: SMC; Voltage - Clamping (Max) @ Ipp: 39.3V; Voltage - Reverse Standoff (Typ): 18.8V
footprint DO214AB SMC
pins: 1, 2

## SM15T22CA
designator D?
TVS DIODE 18.8V 39.3V SMC; Manufacturer: STMicroelectronics; Bidirectional Channels: 1; Current - Peak Pulse (10/1000µs): 254A (8/20µs); Power Line Protection: No; Power - Peak Pulse: 1500W (1.5kW); Type: Zener; Voltage - Breakdown (Min): 20.9V; Part Number: SM15T22CA; Applications: General Purpose; ComponentLink1Description: Datasheet; ComponentLink1URL: http://www.st.com/content/ccc/resource/technical/document/datasheet/a5/63/bb/0d/f0/b8/44/65/CD00000724.pdf/files/CD00000724.pdf/jcr:content/translations/en.CD00000724.pdf; ComponentLink2Description: DigiKey Link; ComponentLink2URL: http://digikey.com/product-detail/en/stmicroelectronics/SM15T22CA/497-12519-1-ND/2864674; LastUpdated: 9/2/2020 1:28:08 AM; Lifecycle Status: Active; Minimum Order: 1; Mounting Type: Surface Mount; Operating Temperature: -55°C ~ 150°C (TJ); Package / Case: DO-214AB, SMC; Packaging: TapeAndReel; PartId: 8597; Part Status: Active; Price: 0.32; Series: SM15T, TRANSIL™; Supplier 1: DigiKey; Supplier Part Number 1: 497-12519-1-ND; Supplier Device Package: SMC; Voltage - Clamping (Max) @ Ipp: 39.3V; Voltage - Reverse Standoff (Typ): 18.8V
footprint DO214AB SMC
pins: 1, 2

## SM15T22CA-E3/57T
designator D?
TVS DIODE 18.8V 30.6V DO214AB; Manufacturer: Vishay Semiconductor Diodes Division; Bidirectional Channels: 1; Current - Peak Pulse (10/1000µs): 49A; Power Line Protection: No; Power - Peak Pulse: 1500W (1.5kW); Type: Zener; Voltage - Breakdown (Min): 20.9V; Part Number: SM15T22CA-E3/57T; Applications: General Purpose; ComponentLink1Description: Datasheet; ComponentLink1URL: http://www.vishay.com/docs/88380/sm15t.pdf; ComponentLink2Description: DigiKey Link; ComponentLink2URL: http://digikey.com/product-detail/en/vishay-semiconductor-diodes-division/SM15T22CA-E3-57T/SM15T22CA-E3-57TGICT-ND/5639107; LastUpdated: 9/2/2020 1:28:05 AM; Lifecycle Status: Active; Minimum Order: 1; Mounting Type: Surface Mount; Operating Temperature: -65°C ~ 150°C (TJ); Package / Case: DO-214AB, SMC; Packaging: TapeAndReel; PartId: 8289; Part Status: Active; Price: 0.34; Series: SM15T, TransZorb®; Supplier 1: DigiKey; Supplier Part Number 1: SM15T22CA-E3/57TGICT-ND; Supplier Device Package: DO-214AB (SMCJ); Voltage - Clamping (Max) @ Ipp: 30.6V; Voltage - Reverse Standoff (Typ): 18.8V
footprint DO214AB SMC
pins: 1, 2

## SM15T22CAY
designator D?
TVS DIODE 18.8V 39.3V SMC; Manufacturer: STMicroelectronics; Bidirectional Channels: 1; Current - Peak Pulse (10/1000µs): 254A (8/20µs); Power Line Protection: No; Power - Peak Pulse: 1500W (1.5kW); Type: Zener; Voltage - Breakdown (Min): 20.9V; Part Number: SM15T22CAY; Applications: Automotive; ComponentLink1Description: Datasheet; ComponentLink1URL: http://www.st.com/content/ccc/resource/technical/document/datasheet/83/5f/b6/7b/63/85/41/b5/CD00283429.pdf/files/CD00283429.pdf/jcr:content/translations/en.CD00283429.pdf; ComponentLink2Description: DigiKey Link; ComponentLink2URL: http://digikey.com/product-detail/en/stmicroelectronics/SM15T22CAY/497-10898-1-ND/2522521; LastUpdated: 9/2/2020 1:28:06 AM; Lifecycle Status: Active; Minimum Order: 1; Mounting Type: Surface Mount; Operating Temperature: -40°C ~ 150°C (TJ); Package / Case: DO-214AB, SMC; Packaging: TapeAndReel; PartId: 8442; Part Status: Active; Price: 0.38; Series: Automotive, AEC-Q101, SM15TY, TRANSIL™; Supplier 1: DigiKey; Supplier Part Number 1: 497-10898-1-ND; Supplier Device Package: SMC; Voltage - Clamping (Max) @ Ipp: 39.3V; Voltage - Reverse Standoff (Typ): 18.8V
footprint DO214AB SMC
pins: 1, 2

## SM15T24A
designator D?
TVS DIODE 20.5V 42.8V SMC; Manufacturer: STMicroelectronics; Current - Peak Pulse (10/1000µs): 234A (8/20µs); Power Line Protection: No; Power - Peak Pulse: 1500W (1.5kW); Type: Zener; Unidirectional Channels: 1; Voltage - Breakdown (Min): 22.8V; Part Number: SM15T24A; Applications: General Purpose; ComponentLink1Description: Datasheet; ComponentLink1URL: http://www.st.com/content/ccc/resource/technical/document/datasheet/a5/63/bb/0d/f0/b8/44/65/CD00000724.pdf/files/CD00000724.pdf/jcr:content/translations/en.CD00000724.pdf; ComponentLink2Description: DigiKey Link; ComponentLink2URL: http://digikey.com/product-detail/en/stmicroelectronics/SM15T24A/497-7868-1-ND/1883631; LastUpdated: 9/2/2020 1:20:07 AM; Lifecycle Status: Active; Minimum Order: 1; Mounting Type: Surface Mount; Operating Temperature: -55°C ~ 150°C (TJ); Package / Case: DO-214AB, SMC; Packaging: TapeAndReel; PartId: 7153; Part Status: Active; Price: 0.31; Series: SM15T, TRANSIL™; Supplier 1: DigiKey; Supplier Part Number 1: 497-7868-1-ND; Supplier Device Package: SMC; Voltage - Clamping (Max) @ Ipp: 42.8V; Voltage - Reverse Standoff (Typ): 20.5V
footprint DO214AB SMC
pins: 1, 2

## SM15T24AY
designator D?
TVS DIODE 20.5V 42.8V SMC; Manufacturer: STMicroelectronics; Current - Peak Pulse (10/1000µs): 234A (8/20µs); Power Line Protection: No; Power - Peak Pulse: 1500W (1.5kW); Type: Zener; Unidirectional Channels: 1; Voltage - Breakdown (Min): 22.8V; Part Number: SM15T24AY; Applications: Automotive; ComponentLink1Description: Datasheet; ComponentLink1URL: http://www.st.com/content/ccc/resource/technical/document/datasheet/83/5f/b6/7b/63/85/41/b5/CD00283429.pdf/files/CD00283429.pdf/jcr:content/translations/en.CD00283429.pdf; ComponentLink2Description: DigiKey Link; ComponentLink2URL: http://digikey.com/product-detail/en/stmicroelectronics/SM15T24AY/497-10788-1-ND/2442957; LastUpdated: 9/2/2020 1:20:06 AM; Lifecycle Status: Active; Minimum Order: 1; Mounting Type: Surface Mount; Operating Temperature: -40°C ~ 150°C (TJ); Package / Case: DO-214AB, SMC; Packaging: TapeAndReel; PartId: 7043; Part Status: Active; Price: 0.37; Series: Automotive, AEC-Q101, SM15TY, TRANSIL™; Supplier 1: DigiKey; Supplier Part Number 1: 497-10788-1-ND; Supplier Device Package: SMC; Voltage - Clamping (Max) @ Ipp: 42.8V; Voltage - Reverse Standoff (Typ): 20.5V
footprint DO214AB SMC
pins: 1, 2

## SM15T24CA
designator D?
TVS DIODE 20.5V 42.8V SMC; Manufacturer: STMicroelectronics; Bidirectional Channels: 1; Current - Peak Pulse (10/1000µs): 234A (8/20µs); Power Line Protection: No; Power - Peak Pulse: 1500W (1.5kW); Type: Zener; Voltage - Breakdown (Min): 22.8V; Part Number: SM15T24CA; Applications: General Purpose; ComponentLink1Description: Datasheet; ComponentLink1URL: http://www.st.com/content/ccc/resource/technical/document/datasheet/a5/63/bb/0d/f0/b8/44/65/CD00000724.pdf/files/CD00000724.pdf/jcr:content/translations/en.CD00000724.pdf; ComponentLink2Description: DigiKey Link; ComponentLink2URL: http://digikey.com/product-detail/en/stmicroelectronics/SM15T24CA/497-12051-1-ND/2783794; LastUpdated: 9/2/2020 1:28:05 AM; Lifecycle Status: Active; Minimum Order: 1; Mounting Type: Surface Mount; Operating Temperature: -55°C ~ 150°C (TJ); Package / Case: DO-214AB, SMC; Packaging: TapeAndReel; PartId: 8281; Part Status: Active; Price: 0.32; Series: SM15T, TRANSIL™; Supplier 1: DigiKey; Supplier Part Number 1: 497-12051-1-ND; Supplier Device Package: SMC; Voltage - Clamping (Max) @ Ipp: 42.8V; Voltage - Reverse Standoff (Typ): 20.5V
footprint DO214AB SMC
pins: 1, 2

## SM15T24CA-E3/57T
designator D?
TVS DIODE 20.5V 33.2V DO214AB; Manufacturer: Vishay Semiconductor Diodes Division; Bidirectional Channels: 1; Current - Peak Pulse (10/1000µs): 45A; Power Line Protection: No; Power - Peak Pulse: 1500W (1.5kW); Type: Zener; Voltage - Breakdown (Min): 22.8V; Part Number: SM15T24CA-E3/57T; Applications: General Purpose; ComponentLink1Description: Datasheet; ComponentLink1URL: http://www.vishay.com/docs/88380/sm15t.pdf; ComponentLink2Description: DigiKey Link; ComponentLink2URL: http://digikey.com/product-detail/en/vishay-semiconductor-diodes-division/SM15T24CA-E3-57T/SM15T24CA-E3-57TGICT-ND/5639109; LastUpdated: 9/2/2020 1:28:05 AM; Lifecycle Status: Active; Minimum Order: 1; Mounting Type: Surface Mount; Operating Temperature: -65°C ~ 150°C (TJ); Package / Case: DO-214AB, SMC; Packaging: TapeAndReel; PartId: 8291; Part Status: Active; Price: 0.34; Series: SM15T, TransZorb®; Supplier 1: DigiKey; Supplier Part Number 1: SM15T24CA-E3/57TGICT-ND; Supplier Device Package: DO-214AB (SMCJ); Voltage - Clamping (Max) @ Ipp: 33.2V; Voltage - Reverse Standoff (Typ): 20.5V
footprint DO214AB SMC
pins: 1, 2

## SM15T27A
designator D?
TVS DIODE 23.1V 48.3V SMC; Manufacturer: STMicroelectronics; Current - Peak Pulse (10/1000µs): 207A (8/20µs); Power Line Protection: No; Power - Peak Pulse: 1500W (1.5kW); Type: Zener; Unidirectional Channels: 1; Voltage - Breakdown (Min): 25.7V; Part Number: SM15T27A; Applications: General Purpose; ComponentLink1Description: Datasheet; ComponentLink1URL: http://www.st.com/content/ccc/resource/technical/document/datasheet/a5/63/bb/0d/f0/b8/44/65/CD00000724.pdf/files/CD00000724.pdf/jcr:content/translations/en.CD00000724.pdf; ComponentLink2Description: DigiKey Link; ComponentLink2URL: http://digikey.com/product-detail/en/stmicroelectronics/SM15T27A/497-7869-1-ND/1883537; LastUpdated: 9/2/2020 1:20:08 AM; Lifecycle Status: Active; Minimum Order: 1; Mounting Type: Surface Mount; Operating Temperature: -55°C ~ 150°C (TJ); Package / Case: DO-214AB, SMC; Packaging: TapeAndReel; PartId: 7242; Part Status: Active; Price: 0.30; Series: SM15T, TRANSIL™; Supplier 1: DigiKey; Supplier Part Number 1: 497-7869-1-ND; Supplier Device Package: SMC; Voltage - Clamping (Max) @ Ipp: 48.3V; Voltage - Reverse Standoff (Typ): 23.1V
footprint DO214AB SMC
pins: 1, 2

## SM15T27A-E3/57T
designator D?
TVS DIODE 23.1V 37.5V DO214AB; Manufacturer: Vishay Semiconductor Diodes Division; Current - Peak Pulse (10/1000µs): 40A; Power Line Protection: No; Power - Peak Pulse: 1500W (1.5kW); Type: Zener; Unidirectional Channels: 1; Voltage - Breakdown (Min): 25.7V; Part Number: SM15T27A-E3/57T; Applications: General Purpose; ComponentLink1Description: Datasheet; ComponentLink1URL: http://www.vishay.com/docs/88380/sm15t.pdf; ComponentLink2Description: DigiKey Link; ComponentLink2URL: http://digikey.com/product-detail/en/vishay-semiconductor-diodes-division/SM15T27A-E3-57T/SM15T27A-E3-57TGICT-ND/3847612; LastUpdated: 9/2/2020 1:20:03 AM; Lifecycle Status: Active; Minimum Order: 1; Mounting Type: Surface Mount; Operating Temperature: -65°C ~ 150°C (TJ); Package / Case: DO-214AB, SMC; Packaging: TapeAndReel; PartId: 6692; Part Status: Active; Price: 0.29; Series: SM15T, TransZorb®; Supplier 1: DigiKey; Supplier Part Number 1: SM15T27A-E3/57TGICT-ND; Supplier Device Package: DO-214AB (SMCJ); Voltage - Clamping (Max) @ Ipp: 37.5V; Voltage - Reverse Standoff (Typ): 23.1V
footprint DO214AB SMC
pins: 1, 2